# EAGLE library part ETHERNET_LANTRONIX_XPORT (library DSP_PID)
3.3V SERIAL TO ETHERNET WITHIN RJ45 JACK, 224mA@88MHz, 112mA@48MHz
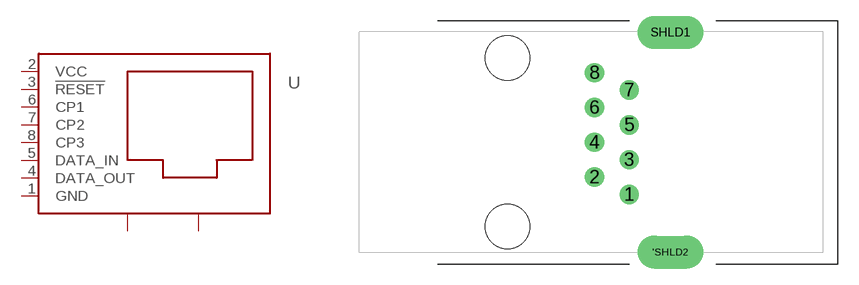
[diagram p6: symbol with the pads of LANTRONIX-XPORT; footprint LANTRONIX-XPORT]

Designator prefix U

## ETHERNET_LANTRONIX_XPORT (MFG: LANTRONIX; MPN: XP1001000-05R; PRICE: 45.88000; VENDOR: DIGIKEY; VPN: 1829-1000-ND)  [LANTRONIX-XPORT]
1  GND  pas
2  VCC  pas
3  !RESET  pas
4  DATA_OUT  pas
5  DATA_IN  pas
6  CP1  pas
7  CP2  pas
8  CP3  pas
'SHLD2  SHLD2  pas
SHLD1  SHLD1  pas

## Footprint LANTRONIX-XPORT (pad centres in mm)
drill 0.9 round: 1 8.89,-3.81; 2 6.35,-2.54; 3 8.89,-1.27; 4 6.35,0; 5 8.89,1.27; 6 6.35,2.54; 7 8.89,3.81; 8 6.35,5.08
drill 1.6 long: 'SHLD2 11.9,-8.025; SHLD1 11.9,8.025
hole 3.25 at 0,-6.15
hole 3.25 at 0,6.15